# Altium schematic symbol library Other.SchLib: 23 symbols
Pins are listed as number, name and electrical type; pins without a type are passive.

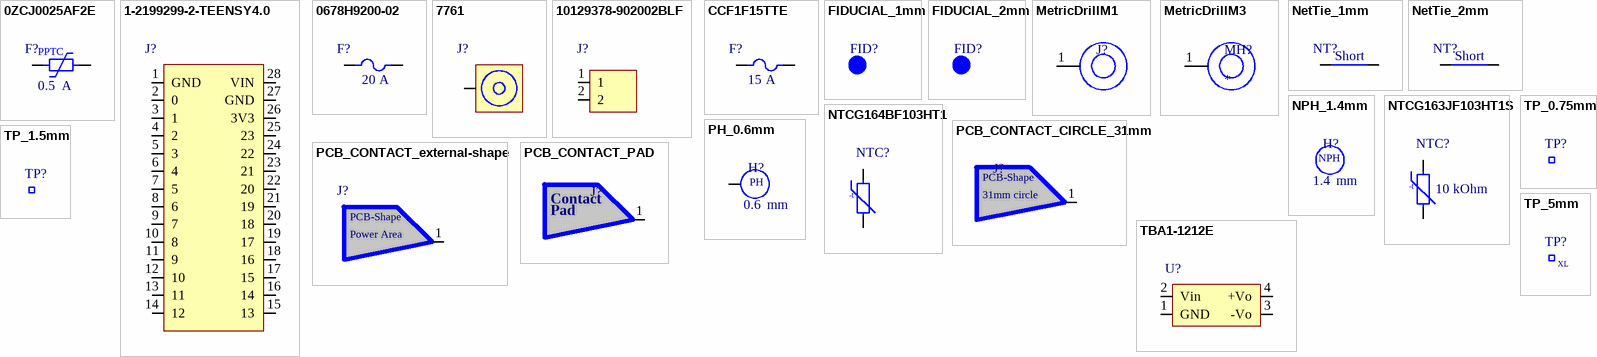
[diagram p0: symbols 0ZCJ0025AF2E to TP_5mm]

## 0ZCJ0025AF2E
designator F?  value 0.5  Units: A  (hidden comment: *)
PTC Resettable Fuse 0.25A(hold) 0.5A(trip) 24VDC 40A 0.6W 0.8s 0.55Ohm SMD Solder Pad 1206 T/R Automotive; Manufacturer: Bel; Manufacturer Part Number: 0ZCJ0025AF2E; Supplier 1: Newark; RoHS: Yes; Category: PTC Resettable Fuses; Stock 1: 1852; Pricing 1: 1=0.15000, 25=0.13000, 50=0.11900, 100=0.10800, 250=0.09900, 500=0.09000 (USD); ComponentLink1URL: https://datasheet.ciiva.com/18550/0zcj-18550505.pdf?src-supplier=Digi-Key; ComponentLink1Description: https://datasheet.ciiva.com/18550/0zcj-18550505.pdf?src-supplier=Digi-Key; ComponentLink2URL: https://datasheet.ciiva.com/18550/0zcj-18550506.pdf?src-supplier=Digi-Key; ComponentLink2Description: https://datasheet.ciiva.com/18550/0zcj-18550506.pdf?src-supplier=Digi-Key; ComponentLink3URL: https://datasheet.ciiva.com/18550/0zcj-18550507.pdf?src-supplier=Digi-Key; ComponentLink3Description: https://datasheet.ciiva.com/18550/0zcj-18550507.pdf?src-supplier=Digi-Key
footprint BelFuse-0ZCJ
pins: 1, 2
text: PPTC

## 1-2199299-2-TEENSY4.0
designator J?  (value not drawn)
28 Position Dual Wipe Ladder Style DIP IC Socket 0.6" Wide 0.1" Pitch; Manufacturer: TE Connectivity; Manufacturer Part Number: 1-2199299-2; Number of Contacts: 28; Connector Type: Pin; Gender: Female; Insulation Resistance: 1GR; Mating Alignment: Yes (With); Contact Current Rating: 1A; Pitch: 2.54mm; Row Spacing: 15.24mm; Contact Post Length: 0.118inch; Supplier 1: Newark; RoHS: Yes; Category: IC and Component Sockets; Stock 1: 1268; Pricing 1: 1=0.57700, 10=0.48100, 25=0.46100, 100=0.44000, 500=0.39100, 1000=0.36400, 2500=0.35700, 5000=0.35200 (USD); Mount: Through Hole; Contact Plating: Tin; Contact Material: Bronze; Color: Black; Housing Material: PBT; Min Operating Temperature: -40°C; Max Operating Temperature: 105°C; Number of Rows: 2; Termination: Through Hole; Orientation: Straight; Packaging: Rail/Tube; Number of Positions: 28; Radiation Hardening: No; REACH SVHC: No SVHC; ELV: Compliant; Lead Free: Lead Free; Flammability Rating: UL94 V-0; RoHS Compliant: Yes; ComponentLink1URL: https://www.te.com/commerce/DocumentDelivery/DDEController?Action=srchrtrv&amp;DocNm=2199299&amp;DocType=Customer+Drawing&amp;DocLang=English&src-supplier=Digi-Key; ComponentLink1Description: https://www.te.com/commerce/DocumentDelivery/DDEController?Action=srchrtrv&amp;DocNm=2199299&amp;DocType=Customer+Drawing&amp;DocLang=English&src-supplier=Digi-Key; ComponentLink2URL: http://www.farnell.com/cad/1895855.pdf?src-supplier=Element14; ComponentLink2Description: http://www.farnell.com/cad/1895855.pdf?src-supplier=Element14; ComponentLink3URL: http://www.te.com/commerce/DocumentDelivery/DDEController?Action=showdoc&DocId=Customer+Drawing%7F2199299%7FA%7Fpdf%7FEnglish%7FENG_CD_2199299_A_baseFilename.pdf&src-supplier=Avnet; ComponentLink3Description: http://www.te.com/commerce/DocumentDelivery/DDEController?Action=showdoc&DocId=Customer+Drawing%7F2199299%7FA%7Fpdf%7FEnglish%7FENG_CD_2199299_A_baseFilename.pdf&src-supplier=Avnet
footprint DIP28-TEENSY
pins: 1 GND, 2 0, 3 1, 4 2, 5 3, 6 4, 7 5, 8 6, 9 7, 10 8, 11 9, 12 10, 13 11, 14 12, 15 13, 16 14, 17 15, 18 16, 19 17, 20 18, 21 19, 22 20, 23 21, 24 22, 25 23, 26 3V3, 27 GND, 28 VIN

## 0678H9200-02
designator F?  value 20  Units: A  (hidden comment: *)
Fuse Chip 20A 250V SMD Solder Pad 3912 9.8 X 3.05mm Ceramic T/R Automotive; Manufacturer: Bel; Manufacturer Part Number: 0678H9200-02; Supplier 1: Arrow Electronics; RoHS: Yes; Category: Fuses; Stock 1: 18000; Pricing 1: 2000=0.38730 (USD); ComponentLink1URL: https://media.digikey.com/pdf/Data%20Sheets/Bel%20Fuse%20PDFs/0678H_Series.pdf?src-supplier=Digi-Key; ComponentLink1Description: https://media.digikey.com/pdf/Data%20Sheets/Bel%20Fuse%20PDFs/0678H_Series.pdf?src-supplier=Digi-Key; ComponentLink2URL: https://belfuse.com/resources/datasheets/circuitprotection/ds-cp-0678h-series.pdf?src-supplier=Digi-Key; ComponentLink2Description: https://belfuse.com/resources/datasheets/circuitprotection/ds-cp-0678h-series.pdf?src-supplier=Digi-Key
footprint 0678HFuse
pins: 1, 2

## 7761
designator J?  (value not drawn)
Extension Bar, 3/8", 125MM; Manufacturer: Keystone Electronics; Manufacturer Part Number: 7761; Current Rating: 15A; Thread Size: M3; Value: 15; Units: A; Supplier 1: Mouser; RoHS: Yes; Category: Terminals; Stock 1: 1502; Pricing 1: 1=0.54000, 10=0.45300, 50=0.44000, 100=0.41800, 1000=0.27500, 10000=0.24100 (USD); Mount: Through Hole; Number of Pins: 4; Contact Material: Brass; Contact Plating: Tin; Package Quantity: 100; Termination: Power; Series: -; RoHS Compliant: Yes; ComponentLink1URL: https://datasheet.ciiva.com/13653/7761-288681-13653510.pdf?src-supplier=Mouser; ComponentLink1Description: https://datasheet.ciiva.com/13653/7761-288681-13653510.pdf?src-supplier=Mouser
footprint 7761-Keystone; pin to pad 1>1+2+3+4
pins: 1

## 10129378-902002BLF
designator J?  (value not drawn)
Conn Unshrouded Header HDR 2 POS 2.54mm Solder ST Thru-Hole Poly Bag; Manufacturer: Amphenol ICC / FCI; Manufacturer Part Number: 10129378-902002BLF; Supplier 1: RSComponents; RoHS: No; Category: Connectors; Stock 1: 15950; Pricing 1: 20000=0.02600, 40000=0.02400 (GBP)
footprint 2x1PinHeader.2.54mm
pins: 1, 2

## CCF1F15TTE
designator F?  value 15  Units: A  (hidden comment: *)
Fuse Chip Fast Acting 15A 65V SMD Solder Pad 2410 T/R UL/cUL; Manufacturer: KOA Speer; Manufacturer Part Number: CCF1F15TTE; Supplier 1: Mouser; RoHS: Yes; Category: Fuses; Stock 1: 633; Pricing 1: 1=0,83000, 10=0,67200, 50=0,67200, 100=0,56000, 1000=0,39200, 10000=0,35000 (USD); Mount: Surface Mount; Min Operating Temperature: -55°C; Max Operating Temperature: 125°C; Voltage Rating (AC): 65V; Voltage Rating (DC): 65V; Current Rating: 15A; Packaging: Tape and Reel; Length: 6.1mm; Depth: 2.5mm; Lead Free: Lead Free; RoHS Compliant: Yes; ComponentLink1URL: http://www.mouser.com/ds/2/219/CCF1F-372006.pdf?src-supplier=Mouser; ComponentLink1Description: http://www.mouser.com/ds/2/219/CCF1F-372006.pdf?src-supplier=Mouser; ComponentLink2URL: http://components.arrow.com/part/dataview/53360109S989918N9168?src-supplier=Arrow+Electronics; ComponentLink2Description: http://components.arrow.com/part/dataview/53360109S989918N9168?src-supplier=Arrow+Electronics
footprint RESC6025X27N-KOA-2410-CCF1F (Chip Resistor, 2-Leads, Body 6,00x2,50mm, IPC Medium Density)
pins: 1, 2

## FIDUCIAL_1mm
designator FID?  (value not drawn)  (no BOM)
FIDUCIAL_1mm 40 mil diam120mil mask
footprint FID_1mm

## FIDUCIAL_2mm
designator FID?  (value not drawn)  (no BOM)
FIDUCIAL_1mm 40 mil diam120mil mask
footprint FID_2mm

## MetricDrillM1
designator J?  (value not drawn)  (no BOM)
footprint MetricM1Hole
pins: 1

## MetricDrillM3
designator MH?  (no BOM)
Mounting Hole Non Plated Metric 3
footprint MetricM3Hole
pins: 1

## NetTie_1mm
designator NT?  (value not drawn)  (net tie, no BOM)
footprint NetTie_1mm
pins: 1, 2
text: Short

## NetTie_2mm
designator NT?  (value not drawn)  (net tie, no BOM)
footprint NetTie_2mm
pins: 1, 2
text: Short

## NPH_1.4mm
designator H?  value 1.4  Units: mm  (hidden comment: *)  (no BOM)
footprint NPH_1.4mm
text: NPH

## NTCG163JF103HT1S
designator NTC?  value 10  Units: kOhm  (hidden comment: *)
Ntc, 10K, 3%, 0603, aec-Q200, 150 / Tape And Reel; Manufacturer: TDK; Manufacturer Part Number: NTCG163JF103HT1S; Supplier 1: Digi-Key; RoHS: Yes; Category: Thermistors; Stock 1: 3349; Pricing 1: 1=0.32000, 5=0.28800, 10=0.25600, 25=0.22920, 50=0.20120, 100=0.17160, 500=0.14190, 1000=0.11880 (USD)
footprint Chip2PinSM127P600-8N-0603-TDK (Based off NTCG163JF103HT1S)
pins: 1, 2
text: -t

## NTCG164BF103HT1
designator NTC?  (value not drawn)
Thermistor NTC 10K Ohm 3% 2-Pin 0603 Surface Mount Solder Pad 4070K T/R; Manufacturer: TDK; Manufacturer Part Number: NTCG164BF103HT1; Max Power Dissipation: 100mW; Value: 10; Units: kOhm; Supplier 1: RSComponents; RoHS: Yes; Category: Thermistors; Stock 1: 4000; Pricing 1: 100=0.13100, 200=0.12300, 500=0.11400, 1000=0.10200 (GBP); Mount: Surface Mount; Case/Package: 0603; Case Code (Imperial): 0603; Case Code (Metric): 1608; Min Operating Temperature: -40°C; Max Operating Temperature: 125°C; Packaging: Cut Tape; Tolerance: 3%; RoHS Compliant: Yes; ComponentLink1URL: https://product.tdk.com/info/en/catalog/datasheets/503021/tpd_commercial_ntc-thermistor_ntcg_en.pdf?src-supplier=Digi-Key; ComponentLink1Description: https://product.tdk.com/info/en/catalog/datasheets/503021/tpd_commercial_ntc-thermistor_ntcg_en.pdf?src-supplier=Digi-Key
pins: 1, 2
text: -t

## PCB_CONTACT_CIRCLE_31mm
designator J?  (value not drawn)  (no BOM)
footprint 31mm_circle
pins: 1
text: PCB-Shape; 31mm circle

## PCB_CONTACT_external-shape
designator J?  (value not drawn)  (no BOM)
footprint CUSTOM-CONTACT_CPB
pins: 1
text: PCB-Shape; Power Area

## PCB_CONTACT_PAD
designator J?  (value not drawn)  (no BOM)
footprint Pad_1.5mm
pins: 1
text: Contact; Pad

## PH_0.6mm
designator H?  value 0.6  Units: mm  (hidden comment: *)  (no BOM)
footprint PH_0.6mm
pins: 1
text: PH

## TBA1-1212E
designator U?  (value not drawn)
Manufacturer: Traco Power; Manufacturer Part Number: TBA1-1212E; Supplier 1: RSComponents; RoHS: Yes; Stock 1: 1; Pricing 1: 1=41.04500, 5=39.81600, 10=38.58700, 25=36.94300, 50=35.30000 (USD)
footprint TBA1_TRACO
pins: 1 GND, 2 Vin, 3 -Vo, 4 +Vo

## TP_0.75mm
designator TP?  (value not drawn)  (no BOM)
Pad testpoint with 0.75mm Diameter
footprint Pad_0.75mm
pins: ?1

## TP_1.5mm
designator TP?  (value not drawn)  (no BOM)
Pad testpoint with 1.5mm Diameter
footprint Pad_1.5mm; pin to pad TP>1
pins: ?1

## TP_5mm
designator TP?  (value not drawn)  (no BOM)
Pad testpoint with 5mm Diameter
footprint Pad_5mm
pins: ?1
text: XL